# Altium schematic symbol library Barrier-Terminal-Block.SchLib: 7 symbols
Pins are listed as number, name and electrical type; pins without a type are passive.

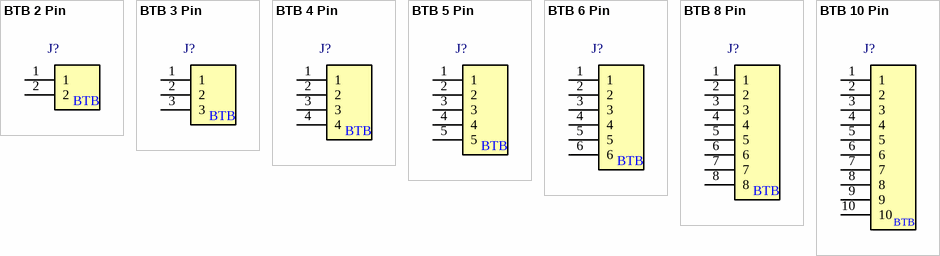
[diagram p0: symbols BTB 2 Pin to BTB 10 Pin]

## BTB 2 Pin
designator J?
Barrier Terminal Block 2 Pin; DatasheetVersion: 2022
pins: 1, 2
text: BTB

## BTB 3 Pin
designator J?
Barrier Terminal Block 2 Pin; DatasheetVersion: 2022
pins: 1, 2, 3
text: BTB

## BTB 4 Pin
designator J?
Barrier Terminal Block 2 Pin; DatasheetVersion: 2022
pins: 1, 2, 3, 4
text: BTB

## BTB 5 Pin
designator J?
Barrier Terminal Block 2 Pin; DatasheetVersion: 2022
pins: 1, 2, 3, 4, 5
text: BTB

## BTB 6 Pin
designator J?
Barrier Terminal Block 2 Pin; DatasheetVersion: 2022
pins: 1, 2, 3, 4, 5, 6
text: BTB

## BTB 8 Pin
designator J?
Barrier Terminal Block 2 Pin; DatasheetVersion: 2022
pins: 1, 2, 3, 4, 5, 6, 7, 8
text: BTB

## BTB 10 Pin
designator J?
Barrier Terminal Block 2 Pin; DatasheetVersion: 2022
pins: 1, 2, 3, 4, 5, 6, 7, 8, 9, 10
text: BTB